# Altium footprint library PCB_General.PcbLib: 49 footprints (part 2 of 4)
Each footprint in its own frame and in the unit in brackets; x right, y up, seen from the top. Pads: shape width x height; smd on the part's side, far side on the other; paste and mask are expansions set on the pad; w line width, h text height; cw(c..) or ccw(c..) is an arc to the next point about the centre after c.
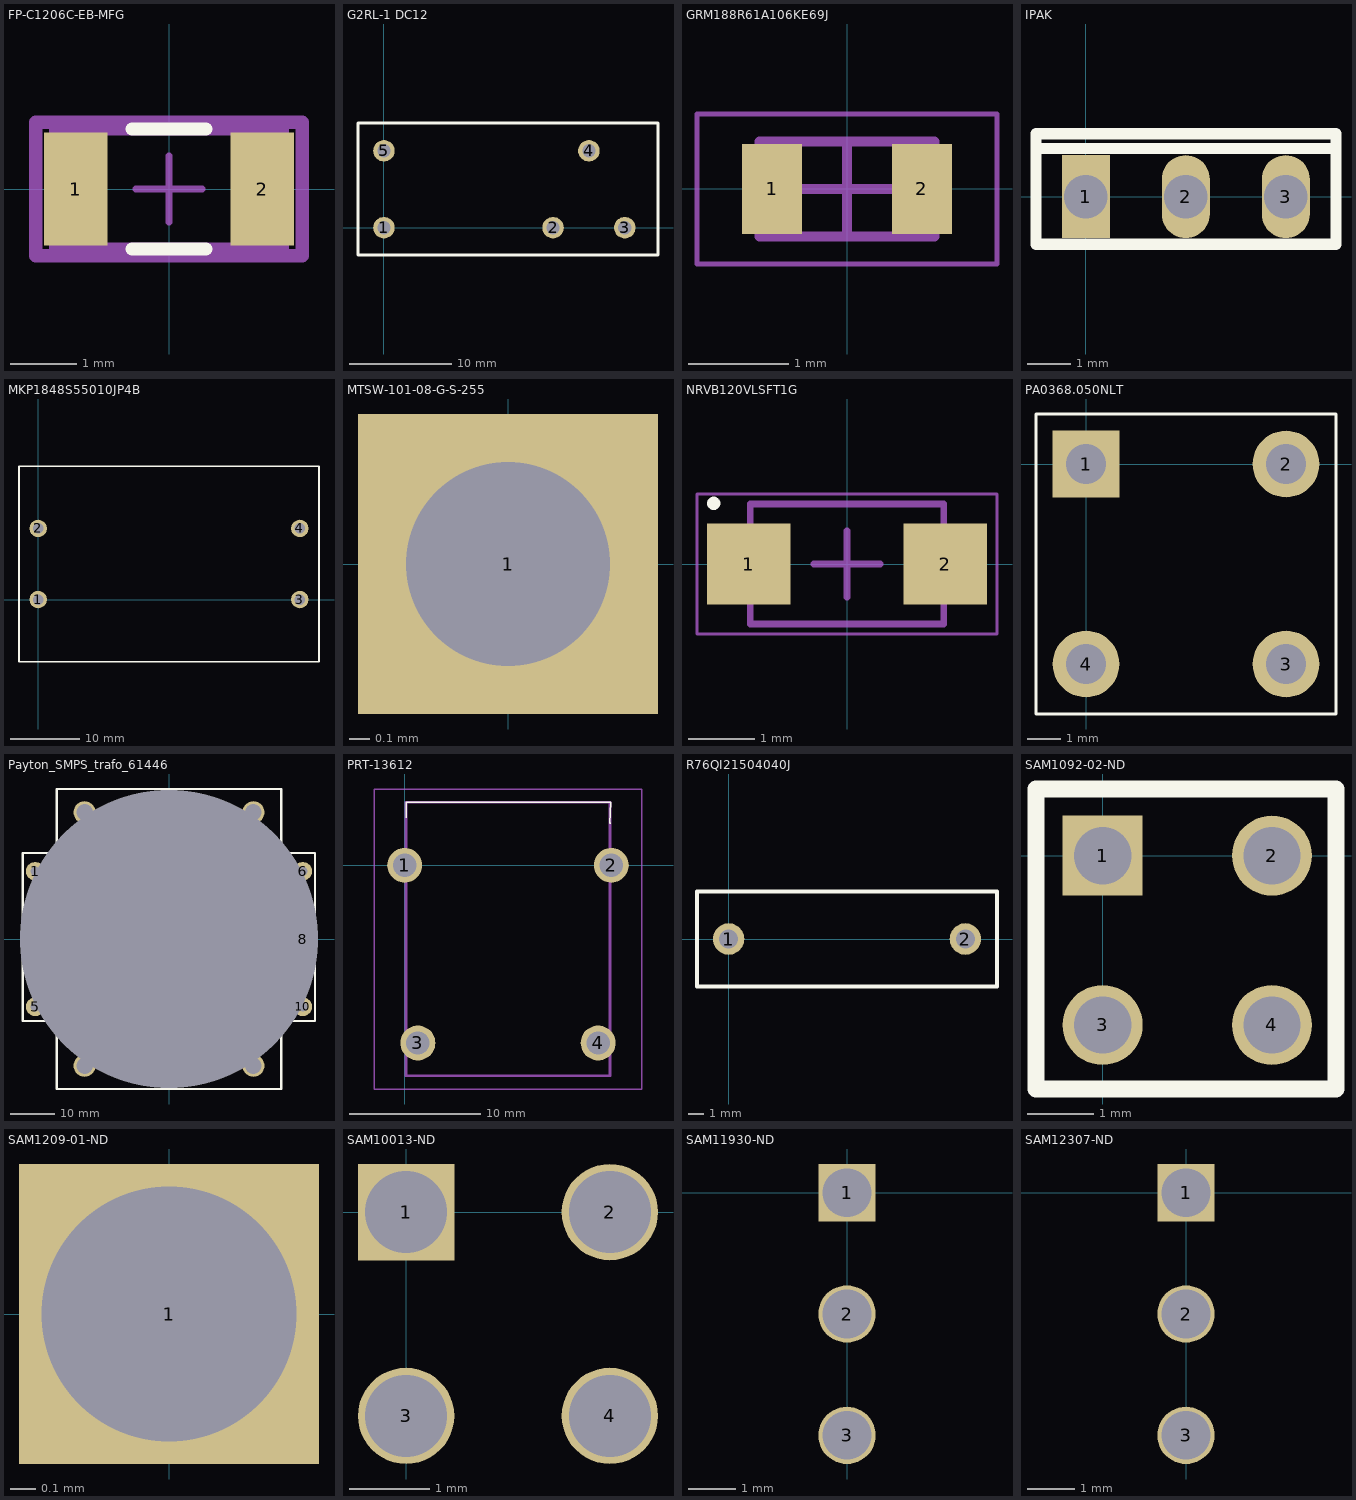
[diagram p1: the footprints below, top view; thin cyan lines are the x and y axes]

## FP-C1206C-EB-MFG [mm]
pads (2):
  rect 0.95x1.7 smd paste+0 mask+0: 1(-1.4,0) 2(1.4,0)
Top Overlay:
  lines w0.2: -0.55,-0.9 0.55,-0.9 ; -0.55,0.9 0.55,0.9
Top Assembly:
  lines w0.2: -2,-1 -2,1 2,1 2,-1 -2,-1
  text ".Designator" at 0,0.188 h1
Mechanical 13:
  lines w0.2: -1.7,-0.9 -1.7,0.9 1.7,0.9 1.7,-0.9 -1.7,-0.9
Mechanical 15:
  lines w0.2: -2,-1 -2,1 2,1 2,-1 -2,-1
Top Component Center:
  lines w0.1: -0.5,0 0.5,0 ; 0,-0.5 0,0.5
3D body "Cap_KEMET_C1206C472K4RACTU_eec.STEP": height 0.25, standoff 0, extent -2,-1 2,1

## G2RL-1 DC12 [mm] "General Purpose Relay SPDT (1 Form C) 12VDC Coil Through Hole"
height 15.7
pads (5):
  round 2.1 hole 1.3: 1(0,0) 2(16.5,0) 3(23.5,0) 4(20,7.5) 5(0,7.5)
Top Overlay:
  lines w0.254: -2.53,-2.66 26.74,-2.66 26.74,10.21 -2.53,10.21 -2.53,-2.66
3D body "G2RL_1.step": height 15.7, standoff -3.5, extent -2.45,-2.66 26.55,10.04

## GRM188R61A106KE69J [mm] "CAP CER 10UF 10V X5R 0603"
height 0.95
pads (2):
  rect 0.6x0.9 smd: 1(-0.75,0) 2(0.75,0)
Top Assembly:
  lines w0.1: -0.875,-0.475 0.875,-0.475 0.875,0.475 -0.875,0.475 -0.875,-0.475
Mechanical 15:
  lines w0.05: -1.5,-0.75 1.5,-0.75 1.5,0.75 -1.5,0.75 -1.5,-0.75
  lines w0.1: -0.475,0 0.475,0 ; 0,-0.475 0,0.475
3D body: height 0.95, standoff 0, extent 0.495,-0.475 0.875,0.475
3D body: height 0.95, standoff 0, extent -0.875,-0.475 -0.495,0.475
3D body: height 0.95, standoff 0, extent -0.495,-0.475 0.495,0.475

## IPAK [mm] "IPAK (TO 251-3) package MOSFET"
height 8.5
pads (3):
  rect 1.1x1.9 hole 1: 1(0,0)
  oval 1.1x1.9 hole 1: 2(2.29,0) 3(4.58,0)
Top Overlay:
  lines w0.254: -1.13,1.1 5.72,1.1 ; -1.14,-1.09 -1.14,1.44 5.73,1.44 5.73,-1.09 -1.14,-1.09
3D body "User Library-TO-251AA(IPak).step": height 9.46, standoff -3.92, extent -1.01,-0.9 5.59,1.4

## MKP1848S55010JP4B [mm] "Film Capacitors 5uF 5% 1000volts 4pins 37.5mm LS"
height 15
pads (4):
  round 2.5 hole 1.5: 1(0,0) 2(0,10.2) 3(37.5,0) 4(37.5,10.2)
Top Overlay:
  lines w0.254: -2.75,-8.9 -2.75,19.1 40.25,19.1 40.25,-8.9 -2.75,-8.9
3D body "cap vishay 4 pin.stp": height 18, standoff -10, extent -2.22,-8.38 39.78,18.62

## MTSW-101-08-G-S-255 [mm]
pads (1):
  rect 1.5x1.5 hole 1.02: 1(0,0)
3D body "MTSW-101-08-G-S-255.stp": height 9.03, standoff -4.43, extent -1.27,-1.27 1.27,1.27

## NRVB120VLSFT1G [mm] "REEL / AUTO STANDARD OF MBR120VL"
height 0.98
pads (2):
  rect 1.25x1.22 smd: 1(-1.475,0) 2(1.475,0)
Top Overlay:
  circle w0.1: c-2,0.91 r0.05
Mechanical 13:
  lines w0.1: -1.45,-0.9 -1.45,0.9 1.45,0.9 1.45,-0.9 -1.45,-0.9
Mechanical 15:
  lines w0.05: -2.25,-1.05 -2.25,1.05 2.25,1.05 2.25,-1.05 -2.25,-1.05
  lines w0.1: -0.5,0 0.5,0 ; 0,-0.5 0,0.5
3D body: height 0.98, standoff 0, extent -1.45,-0.9 1.45,0.9

## PA0368.050NLT [mm] "Current Transformer 1:50 500Vrms 0.004Ohm Prim. DCR 0.9Ohm Sec. DCR 4000mA Surface Mount"
pads (4):
  rect 2x2 hole 1.2: 1(0,0)
  round 2 hole 1.2: 2(6,0) 3(6,-6) 4(0,-6)
Top Overlay:
  lines w0.1: -1.5,-7.5 7.5,-7.5 7.5,1.5 -1.5,1.5 -1.5,-7.5

## Payton_SMPS_trafo_61446 [mm]
pads (10):
  round 4.2 hole 2.1: 1(-30.1,15.24) 5(-30.1,-15.24) 6(30.1,15.24) 8(30.1,0) 10(30.1,-15.24)
  round 1.524 hole 67 square unplated: 2(0,0)
  round 5 hole 3.7: ""(-19,-28.5) ""(-19,28.5) ""(19,-28.5) ""(19,28.5)
Top Overlay:
  lines w0.5: -32.89,-18.435 -25.25,-18.435 -25.25,-33.74 22.36,-33.74 25.25,-33.74 25.25,-18.435 32.86,-18.435 32.86,19.365 25.25,19.365 25.25,33.75 -25.25,33.75 -25.25,19.365 -32.89,19.365 -32.89,-18.435
Mechanical 2:
  text "'.Designator'" at -7.046,5.512 h1.52
3D body "trafo_payton_61446.stp": height 28.2, standoff -7.6, extent -32.455,-32.531 32.545,32.469

## PRT-13612 [mm] "THERMOCOUPLE CONN - PCC-SMP-K"
pads (4):
  round 2.655 hole 1.77: 1(-0.01,0.01) 2(15.69,0.01) 3(0.99,-13.49) 4(14.69,-13.49)
Top Overlay:
  lines w0.1: 0.09,3.61 0.09,4.81 15.64,4.81 15.59,3.21 15.64,3.21
Mechanical 13:
  lines w0.2: 0.09,-15.99 0.09,4.81 15.59,4.81 15.59,-15.99 0.09,-15.99
Mechanical 15:
  lines w0.1: -2.338,-16.99 -2.338,5.81 18.017,5.81 18.017,-16.99 -2.338,-16.99
3D body "User Library-PCC-SMP.STEP": height 7.65, standoff -3.45, extent 0.014,-16.04 15.714,4.76

## R76QI21504040J [mm] "Film Capacitors 1000V .015uF 5% LS=15mm"
height 11
pads (2):
  round 2 hole 1.2: 1(0,0) 2(15,0)
Top Overlay:
  lines w0.254: -2,-3 -2,3 17,3 17,-3 -2,-3
3D body "cap kemet 2.stp": height 11, standoff -3.5, extent -1.5,-2.52 16.5,2.48

## SAM1092-02-ND [mm] "CONN RCPT 4POS 0.1 TIN PCB"
pads (4):
  rect 1.2x1.2 / inner rect 2.5x2.5 / far side rect 1.2x1.2 hole 0.86: 1(0,0)
  round 1.2 / inner round 2.5 / far side round 1.2 hole 0.86: 2(2.54,0) 3(0,-2.54) 4(2.54,-2.54)
Top Overlay:
  lines w0.254: -1,-3.5 3.5,-3.5 3.5,1 -1,1 -1,-3.5

## SAM1209-01-ND [mm]
pads (1):
  rect 1.2x1.2 hole 1.02: 1(0,0)
3D body "SSW-101-01-G-S.stp": height 8.52, standoff -2.63, extent -1.207,-1.524 1.206,1.524

## SAM10013-ND [mm]
pads (4):
  rect 1.2x1.2 hole 1.02: 1(0,0)
  round 1.2 hole 1.02: 2(2.54,0) 3(0,-2.54) 4(2.54,-2.54)
3D body "SSW-102-01-F-D.stp": height 8.52, standoff -2.63, extent -1.277,-4.1 3.677,1.488

## SAM11930-ND [mm]
pads (3):
  rect 1.2x1.2 hole 1.02: 1(0,0)
  round 1.2 hole 1.02: 2(0,-2.54) 3(0,-5.08)
3D body "SSW-103-01-F-S.stp": height 8.52, standoff -2.63, extent -1.213,-6.664 1.2,1.464

## SAM12307-ND [mm]
pads (3):
  rect 1.2x1.2 hole 1.02: 1(0,0)
  round 1.2 hole 1.02: 2(0,-2.54) 3(0,-5.08)
3D body "TSW-103-15-T-S.stp": height 15.76, standoff -2.78, extent -1.24,-6.473 1.3,1.273